# EAGLE library part PICAXE-08 (library PICAXE)
PICAXE-08 Controller 1-4 I/P, 1-4 O/P, 1 ADC
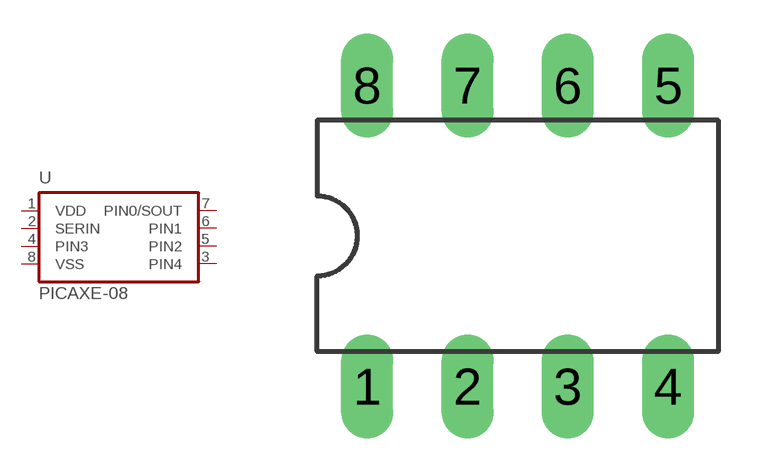
[diagram p0: symbol with the pads of DIL8; footprint DIL8]

Designator prefix U

## PICAXE-08  [DIL8]
1  VDD  pwr
2  SERIN
3  PIN4
4  PIN3  in
5  PIN2
6  PIN1
7  PIN0/SOUT  out
8  VSS  pwr

## Footprint DIL8 (pad centres in mm)
drill 0.813 long: 1 -3.81,-3.81; 2 -1.27,-3.81; 3 1.27,-3.81; 4 3.81,-3.81; 5 3.81,3.81; 6 1.27,3.81; 7 -1.27,3.81; 8 -3.81,3.81